# EAGLE library part W25Q128JV (library ICs)
FLASH - NOR Memory IC 128Mb (16M x 8) SPI - Quad I/O, QPI, DTR 133 MHz 8-SOIC
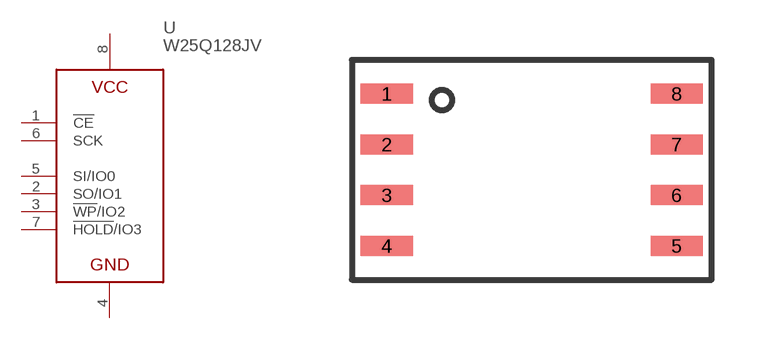
[diagram p301: symbol with the pads of SO8-208MIL; footprint SO8-208MIL]

Designator prefix U

## W25Q128JVSIQ (DIGIKEY: W25Q128JVSIQ-ND; HEIGHT: 2; PRICE_PER: 1.53; VALUE: W25Q128JV)  [SO8-208MIL]
1  !CE
2  SO/IO1
3  !WP!/IO2
4  GND
5  SI/IO0
6  SCK
7  !HOLD!/IO3
8  VCC

## Footprint SO8-208MIL (pad centres in mm)
smd 1.3 x 0.5: 1 -3.625,1.905; 2 -3.625,0.635; 3 -3.625,-0.635; 4 -3.625,-1.905; 5 3.625,-1.905; 6 3.625,-0.635; 7 3.625,0.635; 8 3.625,1.905